# Altium schematic symbol library LP2951.Schlib: 1 symbol
Pins are listed as number, name and electrical type; pins without a type are passive.

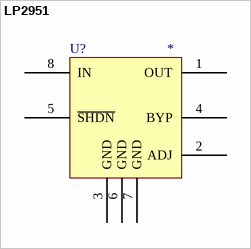
[diagram p0: symbol LP2951]

## LP2951
designator U?
pins: 1 OUT, 2 ADJ, 3 GND, 4 BYP, 5 ~{SHDN}, 6 GND, 7 GND, 8 IN
1 alternate drawing of the same symbol